# EAGLE library part ADS1148 (library ads11xx)
For BOB of ADS1148 ONLY! Visit for BoB:- here <https://github.com/ticepd/Latest-eagle-files/tree/master/28%20pin%20TSSOP> Visit here for more details <cedtnsit.in>
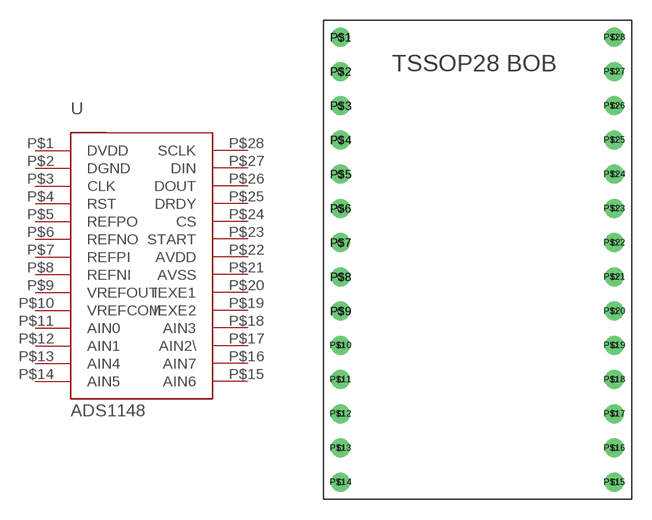
[diagram p2: symbol with the pads of TSSOP-28; footprint TSSOP-28]

Designator prefix -

## ADS1148  [TSSOP-28]
P$1  DVDD
P$2  DGND
P$3  CLK
P$4  RST
P$5  REFPO
P$6  REFNO
P$7  REFPI
P$8  REFNI
P$9  VREFOUT
P$10  VREFCOM
P$11  AIN0
P$12  AIN1
P$13  AIN4
P$14  AIN5
P$15  AIN6
P$16  AIN7
P$17  AIN2\
P$18  AIN3
P$19  IEXE2
P$20  IEXE1
P$21  AVSS
P$22  AVDD
P$23  START
P$24  CS
P$25  DRDY
P$26  DOUT
P$27  DIN
P$28  SCLK

## Footprint TSSOP-28 (pad centres in mm)
28 pin TSSOP BOB by CEDT
drill 0.6 pad 1.422: P$1 -10.16,15.24; P$2 -10.16,12.7; P$3 -10.16,10.16; P$4 -10.16,7.62; P$5 -10.16,5.08; P$6 -10.16,2.54; P$7 -10.16,0; P$8 -10.16,-2.54; P$9 -10.16,-5.08; P$10 -10.16,-7.62; P$11 -10.16,-10.16; P$12 -10.16,-12.7; P$13 -10.16,-15.24; P$14 -10.16,-17.78; P$15 10.16,-17.78; P$16 10.16,-15.24; P$17 10.16,-12.7; P$18 10.16,-10.16; P$19 10.16,-7.62; P$20 10.16,-5.08; P$21 10.16,-2.54; P$22 10.16,0; P$23 10.16,2.54; P$24 10.16,5.08; P$25 10.16,7.62; P$26 10.16,10.16; P$27 10.16,12.7; P$28 10.16,15.24
hole 0.35 at -10.16,2.54
hole 0.35 at -10.16,5.08
hole 0.35 at -10.16,7.62
hole 0.35 at -10.16,10.16
hole 0.35 at -10.16,12.7
hole 0.35 at -10.16,15.24
hole 0.35 at -10.16,0
hole 0.35 at -10.16,-2.54
hole 0.35 at -10.16,-5.08
hole 0.35 at -10.16,-7.62
hole 0.35 at -10.16,-10.16
hole 0.35 at -10.16,-12.7
hole 0.35 at -10.16,-15.24
hole 0.35 at -10.16,-17.78
hole 0.35 at 10.16,2.54
hole 0.35 at 10.16,5.08
hole 0.35 at 10.16,7.62
hole 0.35 at 10.16,10.16
hole 0.35 at 10.16,12.7
hole 0.35 at 10.16,15.24
hole 0.35 at 10.16,0
hole 0.35 at 10.16,-2.54
hole 0.35 at 10.16,-5.08
hole 0.35 at 10.16,-7.62
hole 0.35 at 10.16,-10.16
hole 0.35 at 10.16,-12.7
hole 0.35 at 10.16,-15.24
hole 0.35 at 10.16,-17.78